# Altium schematic symbol library Diode_Tvs.SchLib: 1 symbol
Pins are listed as number, name and electrical type; pins without a type are passive.

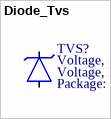
[diagram p0: symbol Diode_Tvs]

## Diode_Tvs
designator TVS?
Component Category: Diode; ComponentLink1Description: Datasheet; ComponentLink1URL: *; ComponentLink2Description: Supplier Link; ComponentLink2URL: *; Manufacturer Part Number: *; Supplier: *; Supplier Part Number: *; Manufacturer: *; Operating Temperature, Min: *℃; Operating Temperature, Max: *℃; Quantity, Min: *; Quantity, Max: *; Price, Min: *; Price, Max: *; Supplier Currency: *; Supplier Link: *; Component Type: Zener; Voltage, Break Down: *; Voltage, Stand Off: *; Package: *
footprint Diode_SOD-523_SC-79
pins: A, C